# EAGLE library part MICRO_MATE-N-LOK_8 (library con-tyco-micro-mate-n-lok-old)
3mm Centerline, 250V, 5 A max.
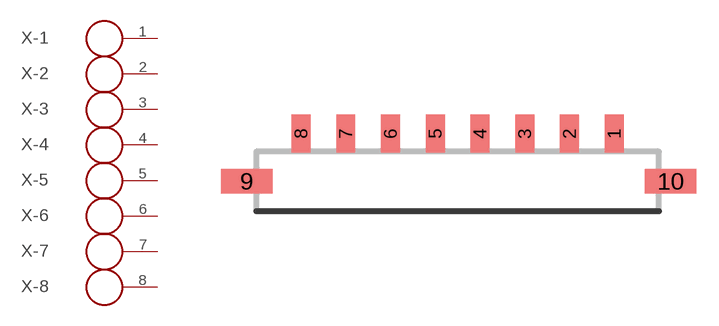
[diagram p0: symbol with the pads of MIRCO_MATE-N-LOK_8_SURFACE_VERTICAL; footprint MIRCO_MATE-N-LOK_8_SURFACE_VERTICAL]

Designator prefix X; gates -1=POLE -2=POLE -3=POLE -4=POLE -5=POLE -6=POLE -7=POLE -8=POLE

## MICRO_MATE-N-LOK_8  [MIRCO_MATE-N-LOK_8_SURFACE_VERTICAL]
1  -1:P$1
2  -2:P$1
3  -3:P$1
4  -4:P$1
5  -5:P$1
6  -6:P$1
7  -7:P$1
8  -8:P$1

## Footprint MIRCO_MATE-N-LOK_8_SURFACE_VERTICAL (pad centres in mm)
smd 1.27 x 2.54: 1 21,3.2; 2 18,3.2; 3 15,3.2; 4 12,3.2; 5 9,3.2; 6 6,3.2; 7 3,3.2; 8 0,3.2
smd 3.43 x 1.65: 9 -3.635,0; 10 24.775,0